# Altium footprint library KF762connector.PcbLib: 1 footprints
Each footprint in its own frame and in the unit in brackets; x right, y up, seen from the top. Pads: shape width x height; smd on the part's side, far side on the other; paste and mask are expansions set on the pad; w line width, h text height; cw(c..) or ccw(c..) is an arc to the next point about the centre after c.
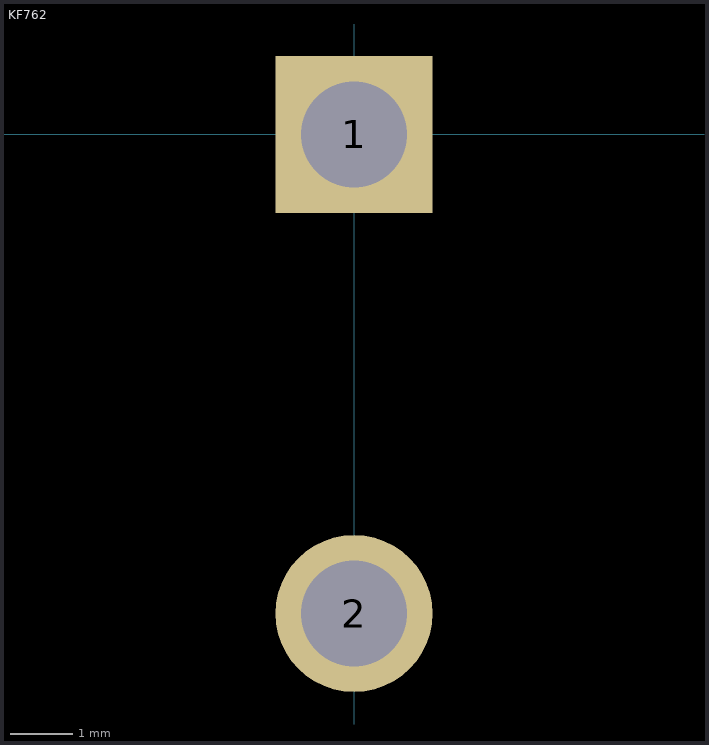
[diagram p0: the footprint, top view; thin cyan lines are the x and y axes]

## KF762 [mm]
pads (2):
  rect 2.5x2.5 hole 1.69: 1(0,0)
  round 2.5 hole 1.69: 2(0,-7.62)